# Altium footprint library SC52-11HWA.PcbLib: 2 footprints
Each footprint in its own frame and in the unit in brackets; x right, y up, seen from the top. Pads: shape width x height; smd on the part's side, far side on the other; paste and mask are expansions set on the pad; w line width, h text height; cw(c..) or ccw(c..) is an arc to the next point about the centre after c.
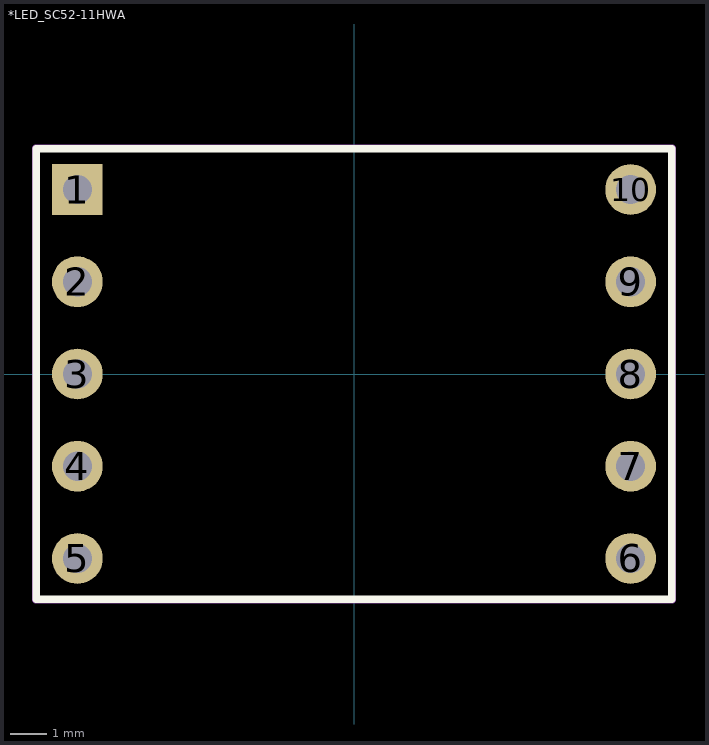
[diagram p0: the footprints below, top view; thin cyan lines are the x and y axes]

## *LED_SC52-11HWA [mm]
pads (10):
  rect 1.4x1.4 hole 0.8: 1(-7.62,5.08)
  round 1.4 hole 0.8: 2(-7.62,2.54) 3(-7.62,0) 4(-7.62,-2.54) 5(-7.62,-5.08) 6(7.62,-5.08) 7(7.62,-2.54) 8(7.62,0) 9(7.62,2.54) 10(7.62,5.08)
Top Overlay:
  lines w0.2: -8.75,-6.2 -8.75,6.2 8.75,6.2 8.75,-6.2 -8.75,-6.2
Mechanical 29:
  circle w0.5: c-7.62,5.08 r0.18
  lines w0.2: -8.763,-6.223 8.763,-6.223 8.763,6.223 -8.763,6.223 -8.763,-6.223
  text ".Designator" at -0.127,-0.127 h1.27
3D body "User Library-7-Segment.step": height 8.01, standoff -6.29, extent -9.5,-6.3 9.5,6.3

## PCBComponent_1 [mm]